# Altium footprint library PcbLib.PcbLib: 145 footprints (part 1 of 10)
Each footprint in its own frame and in the unit in brackets; x right, y up, seen from the top. Pads: shape width x height; smd on the part's side, far side on the other; paste and mask are expansions set on the pad; w line width, h text height; cw(c..) or ccw(c..) is an arc to the next point about the centre after c.
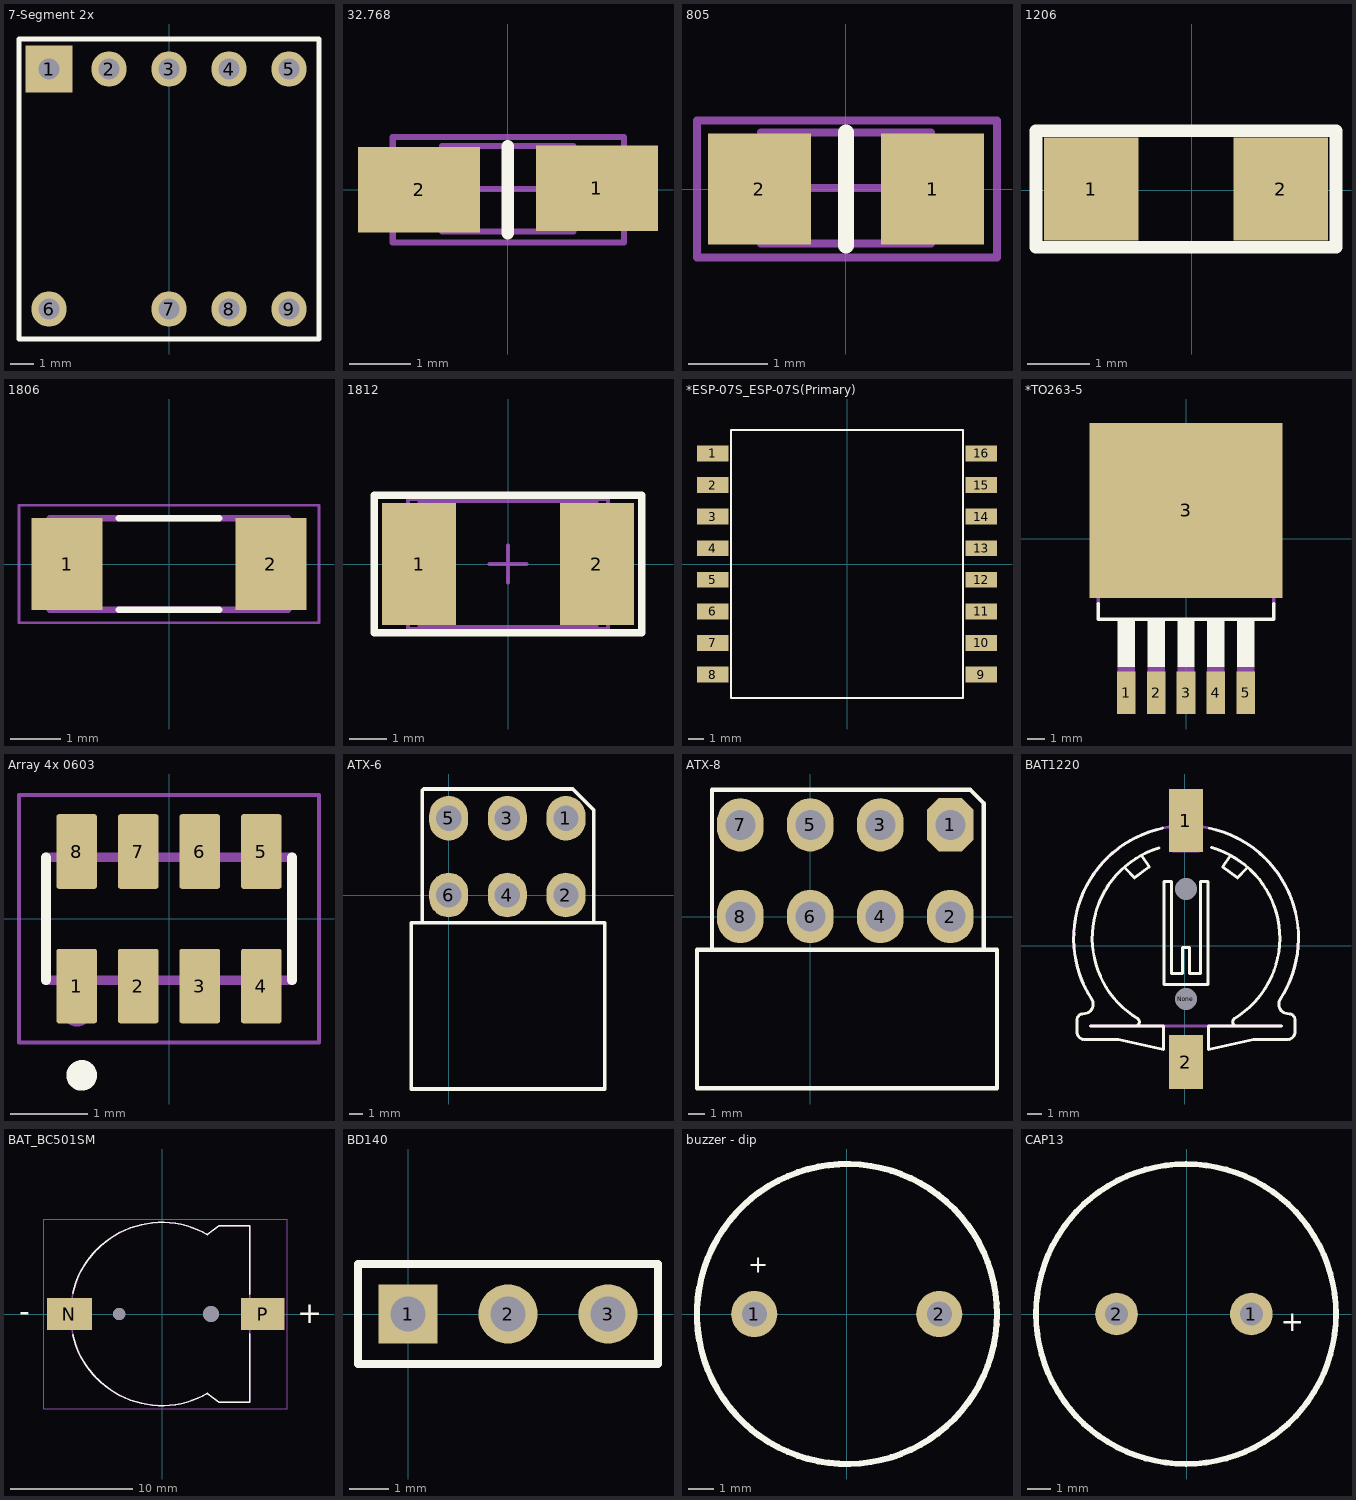
[diagram p0: the footprints below, top view; thin cyan lines are the x and y axes]

## 7-Segment 2x [mm]
pads (9):
  rect 2x2 hole 0.9: 1(-5.08,-3.81)
  round 1.5 hole 0.9: 2(-2.54,-3.81) 3(0,-3.81) 4(2.54,-3.81) 5(5.08,-3.81) 6(-5.08,-13.97) 7(0,-13.97) 8(2.54,-13.97) 9(5.08,-13.97)
Top Overlay:
  lines w0.2: -6.35,-15.24 6.35,-15.24 6.35,-2.54 -6.35,-2.54 -6.35,-15.24

## 32.768 [mm]
pads (2):
  rect 2x1.4 smd: 1(1.46,0.025) 2(-1.448,0)
Top Overlay:
  lines w0.203: 0,-0.711 0,0.711
Mechanical 13:
  lines w0.1: -1.075,-0.686 1.075,-0.686 1.075,0.714 -1.075,0.714 -1.075,-0.686
Mechanical 15:
  lines w0.1: -0.5,0.014 0.5,0.014 ; 0,-0.486 0,0.514 ; -1.88,-0.864 1.905,-0.864 1.905,0.864 -1.88,0.864 -1.88,-0.864
3D body: height 0.7, standoff 0, extent -1.075,-0.686 1.075,0.714

## 805 [mm]
pads (2):
  rect 1.3x1.4 smd: 1(1.092,0) 2(-1.092,0)
Top Overlay:
  lines w0.203: 0,-0.711 0,0.711
Mechanical 13:
  lines w0.1: -1.075,-0.686 1.075,-0.686 1.075,0.714 -1.075,0.714 -1.075,-0.686
Mechanical 15:
  lines w0.1: -0.5,0.014 0.5,0.014 ; 0,-0.486 0,0.514 ; -1.88,-0.864 1.905,-0.864 1.905,0.864 -1.88,0.864 -1.88,-0.864
3D body: height 0.7, standoff 0, extent -1.075,-0.686 1.075,0.714

## 1206 [mm]
pads (2):
  rect 1.524x1.65 smd: 1(-1.62,0.018) 2(1.428,0.018)
Top Overlay:
  lines w0.203: -2.509,-0.921 -2.509,0.958 2.317,0.958 2.317,-0.921 -2.509,-0.921
3D body: height 2.54, standoff 0, extent -1.747,-0.794 1.682,0.831

## 1806 [mm]
pads (2):
  rect 1.4x1.82 smd: 1(-2.01,0) 2(2.01,0)
Top Overlay:
  lines w0.127: -0.99,-0.9 0.99,-0.9 ; -0.99,0.9 0.99,0.9
Mechanical 13:
  lines w0.127: -2.35,-0.9 2.35,-0.9 2.35,0.9 -2.35,0.9 -2.35,-0.9
Mechanical 15:
  lines w0.05: -2.958,-1.158 2.958,-1.158 2.958,1.158 -2.958,1.158 -2.958,-1.158
3D body "BLM41PG102SN1K.STEP": height 0.8, standoff -0.8, extent -2.25,-0.889 2.25,0.911

## 1812 [mm]
pads (2):
  rect 2x3.3 smd: 1(-2.4,0) 2(2.4,0)
Top Overlay:
  lines w0.203: -3.607,1.829 -3.607,-1.854 3.607,-1.854 3.607,1.854 -3.607,1.854
Mechanical 13:
  lines w0.1: -2.4,-1.7 -2.4,1.7 2.4,1.7 2.4,-1.7 -2.4,-1.7
Mechanical 15:
  lines w0.1: -0.5,0 0.5,0 ; 0,-0.5 0,0.5 ; -2.7,-1.75 -2.7,1.75 2.7,1.75 2.7,-1.75 -2.7,-1.75
3D body: height 1.4, standoff 0, extent -2.4,-1.7 2.4,1.7

## *ESP-07S_ESP-07S(Primary) [mm]
pads (16):
  rect 2x1 smd: 1(-8.5,7) 2(-8.5,5) 3(-8.5,3) 4(-8.5,1) 5(-8.5,-1) 6(-8.5,-3) 7(-8.5,-5) 8(-8.5,-7) 9(8.5,-7) 10(8.5,-5) 11(8.5,-3) 12(8.5,-1) 13(8.5,1) 14(8.5,3) 15(8.5,5) 16(8.5,7)
Top Overlay:
  lines w0.127: -7.35,8.5 7.35,8.5 ; -7.35,8.5 -7.35,-8.5 7.35,-8.5 7.35,8.5 ; -7.35,8.5 7.35,8.5
3D body "User Library-ESP07-1.STEP": height 3.5, standoff -0.01, extent -7.956,-8.737 8.044,13.263

## *TO263-5 [mil]
pads (6):
  rect 42x95 smd: 1(-134,-346.11) 2(-67,-346.11) 3(0,-346.11) 4(67,-346.11) 5(134,-346.11)
  rect 433.07x393.7 smd: 3(0,63.39)
Top Overlay:
  region: -153.25,-181.1 -115,-181.1 -115,-287.86 -153.25,-287.86
  region: -86.05,-181.1 -48,-181.1 -48,-287.56 -86.05,-287.56
  region: -19.03,-181.1 19,-181.1 19,-287.92 -19.03,-287.92
  region: 48.01,-181.1 86,-181.1 86,-287.48 48.01,-287.48
  region: 115.05,-181.1 153,-181.1 153,-287.52 115.05,-287.52
  lines w8: -196.85,-145.67 -196.85,-181.1 196.85,-181.1 196.85,-145.67
Mechanical 4:
  region: -153.05,-287.4 -115,-287.4 -115,-374.13 -153.05,-374.13
  region: -86.13,-287.4 -48,-287.4 -48,-374.57 -86.13,-374.57
  region: -19.01,-287.4 19,-287.4 19,-374.17 -19.01,-374.17
  region: 48.01,-287.4 86,-287.4 86,-374.09 48.01,-374.09
  region: 115.02,-287.4 153,-287.4 153,-374.08 115.02,-374.08
  region: -196.85,181.1 -196.85,206.69 -137.8,228.35 137.8,228.35 196.85,206.69 196.85,181.1
  region: -153.05,-287.4 -115,-287.4 -115,-374.13 -153.05,-374.13
  region: -86.13,-287.4 -48,-287.4 -48,-374.57 -86.13,-374.57
  region: -19.01,-287.4 19,-287.4 19,-374.17 -19.01,-374.17
  region: 48.01,-287.4 86,-287.4 86,-374.09 48.01,-374.09
  region: 115.02,-287.4 153,-287.4 153,-374.08 115.02,-374.08
  region: -196.85,181.1 -196.85,206.69 -137.8,228.35 137.8,228.35 196.85,206.69 196.85,181.1
  lines w8: -196.85,181.1 -196.85,-145.67 -196.85,181.1 ; -196.85,181.1 -196.85,206.69 ; -196.85,181.1 196.85,181.1 ; -196.85,181.1 -196.85,206.69 ; -196.85,181.1 196.85,181.1 ; -196.85,206.69 -137.8,228.35 ; -196.85,206.69 -137.8,228.35 ; -137.8,228.35 137.8,228.35 ; -137.8,228.35 137.8,228.35 ; 137.8,228.35 196.85,206.69 ; 137.8,228.35 196.85,206.69 ; 196.85,181.1 196.85,-145.67 196.85,181.1 ; 196.85,181.1 196.85,206.69 ; 196.85,181.1 196.85,206.69
3D body "LM2596S-5.0--3DModel-STEP-56544.STEP": height 183, standoff -6, extent -199.99,-320 200.01,245

## Array 4x 0603 [mm]
pads (8):
  rrect13% 0.53x0.97 smd: 1(-1.2,-0.875) 2(-0.4,-0.875) 3(0.4,-0.875) 4(1.2,-0.875) 5(1.2,0.875) 6(0.4,0.875) 7(-0.4,0.875) 8(-1.2,0.875)
Top Overlay:
  circle w0.2: c-1.135,-2.035 r0.1
  lines w0.127: -1.6,-0.8 -1.6,0.8 ; 1.6,-0.8 1.6,0.8
Mechanical 13:
  circle w0.2: c-1.2,-1.2 r0.1
  lines w0.127: -1.6,-0.8 -1.6,0.8 1.6,0.8 1.6,-0.8 -1.6,-0.8
Mechanical 15:
  lines w0.05: -1.95,-1.61 -1.95,1.61 1.95,1.61 1.95,-1.61 -1.95,-1.61
3D body "EXB-V8N514JV.STEP": height 0.6, standoff 0, extent -1.6,-0.838 1.6,0.762

## ATX-6 [mm]
pads (6):
  oval 2.8x3.2 hole 1.8: 1(8.4,5.5) 2(8.4,0) 3(4.2,5.5) 4(4.2,0) 5(0,5.5) 6(0,0)
Top Overlay:
  lines w0.254: -1.9,-2 -1.9,7.5 -1.8,7.6 8.9,7.6 10.4,6.1 10.4,-2 ; -2.7,-13.9 -2.7,-2 11.2,-2 11.2,-13.9 -2.7,-13.9

## ATX-8 [mm]
pads (8):
  oct 2.8x3.2 hole 1.8: 1(8.4,5.5)
  oval 2.8x3.2 hole 1.8: 2(8.4,0) 3(4.2,5.5) 4(4.2,0) 5(0,5.5) 6(0,0) 7(-4.2,5.5) 8(-4.2,0)
Top Overlay:
  lines w0.254: 10.4,-2 10.4,6.8 9.6,7.6 -5.9,7.6 -5.9,-2 ; -5.9,-2 -6.8,-2 -6.8,-10.3 11.2,-10.3 11.2,-2 -5.9,-2

## BAT1220 [mm]
pads (4):
  rect 2.3x4.3 smd: 1(0.102,8.507)
  rect 2.3x3.66 smd: 2(0.102,-7.934)
  round 1.3 hole 1.5 unplated: None(0.102,-3.639)
  round 1 hole 1.5 unplated: None(0.102,3.861)
Top Overlay:
  lines w0.2: -7.32,-5.08 -7.32,-5.878 ccw(c-6.8,-5.878) -6.763,-6.397 ; -7.32,-5.078 cw(c-6.891,-5.07) -6.884,-4.641 ; -6.877,-4.641 ccw(c-6.866,-3.995) -6.323,-3.642 ; -6.761,-6.397 -4.487,-6.397 -1.42,-7.075 -1.42,-5.479 -6.398,-5.479 ; -6.312,-3.66 cw(c0.103,0.506) -1.487,7.988 ; -4.023,5.249 -3.398,4.611 -2.398,5.361 -2.898,6.111 ; -3.41,-5.476 ccw(c-3.357,-5.2) -3.212,-4.96 ; -3.173,-4.983 cw(c0.13,0.514) -1.745,6.647 ; 1.703,7.985 cw(c0.115,0.512) 6.522,-3.649 ; 1.848,6.665 cw(c0.083,0.509) 3.381,-4.98 ; 3.102,6.111 2.602,5.361 3.602,4.611 4.227,5.249 ; 3.415,-4.96 ccw(c3.559,-5.2) 3.603,-5.476 ; 6.526,-3.642 ccw(c7.069,-3.995) 7.08,-4.641 ; 6.602,-5.479 1.623,-5.479 1.623,-7.075 4.69,-6.397 6.964,-6.397 ; 6.967,-6.397 ccw(c7.003,-5.878) 7.523,-5.878 7.523,-5.08 ; 7.087,-4.641 cw(c7.094,-5.07) 7.523,-5.078 ; -1.398,-2.639 1.602,-2.639 1.602,4.361 1.102,4.361 1.102,-1.889 0.352,-1.889 0.352,-0.139 -0.148,-0.139 -0.148,-1.889 -0.898,-1.889 -0.898,4.361 -1.398,4.361 -1.398,-2.639
Mechanical 4:
  region: -0.798,-6.139 1.002,-6.139 1.002,-9.264 -0.798,-9.264
  region: -0.798,10.186 1.002,10.186 1.002,6.361 -0.798,6.361
  region: -0.798,-6.139 1.002,-6.139 1.002,-9.264 -0.798,-9.264
  region: -0.798,10.186 1.002,10.186 1.002,6.361 -0.798,6.361
  lines w0.2: -6.398,-5.479 6.602,-5.479 -6.398,-5.479 ; -6.316,-3.653 cw(c0.102,0.514) 6.519,-3.653 ccw(c0.102,0.514) -6.316,-3.653

## BAT_BC501SM [mm]
pads (4):
  rect 3.66x2.6 smd: N(-7.57,0)
  rect 3.54x2.6 smd: P(8.23,0)
  round 1 hole 1 unplated: ""(-3.5,0)
  round 1.3 hole 1.3 unplated: ""(4,0)
Top Overlay:
  lines w0.127: -7.306,-1.681 ccw(c-0.01,0.004) 3.733,-6.481 ; -7.306,1.681 cw(c-0.01,-0.004) 3.733,6.481 ; 3.7,-6.5 4.67,-7.2 7.185,-7.2 7.185,-1.62 ; 3.7,6.5 4.67,7.2 7.185,7.2 7.185,1.62
  text "-" at -11.684,-0.635 h1.78
  text "+" at 11.049,-0.762 h1.78
Mechanical 13:
  lines w0.127: 3.7,-6.5 4.67,-7.2 7.185,-7.2 7.185,7.2 4.67,7.2 3.7,6.5 ; 3.74,-6.477 cw(c0,0) 3.74,6.477
  text "-" at -11.684,-0.635 h1.78
  text "+" at 11.049,-0.762 h1.78
Mechanical 15:
  lines w0.05: -9.65,-7.75 10.25,-7.75 10.25,7.75 -9.65,7.75 -9.65,-7.75
3D body "BC501SM--3DModel-STEP-1.STEP": height 4, standoff -0.94, extent -8.38,-7.671 9.62,7.31

## BD140 [mm]
pads (3):
  rect 1.5x1.5 hole 0.9: 1(0,0)
  round 1.5 hole 0.9: 2(2.54,0) 3(5.08,0)
Top Overlay:
  lines w0.2: -1.27,-1.27 -1.27,1.27 6.35,1.27 6.35,-1.27 -1.27,-1.27

## buzzer - dip [mm]
pads (2):
  round 1.85 hole 1: 1(-3.7,0) 2(3.7,0)
Top Overlay:
  circle w0.25: c0.008,0 r6
  text "+" at -3.936,1.4 h1.2
3D body "PS1240P02BT--3DModel-STEP-56544.STEP": height 6, standoff -15, extent -6.1,-6.1 6.1,6.1

## CAP13 [mm]
pads (2):
  round 1.85 hole 1: 1(2.794,0) 2(-3.048,0)
Top Overlay:
  circle w0.25: c-0.04,0 r6.5
  text "+" at 4.068,-0.737 h0.89